# Altium schematic symbol library AD7888.SchLib: 1 symbol
Pins are listed as number, name and electrical type; pins without a type are passive.

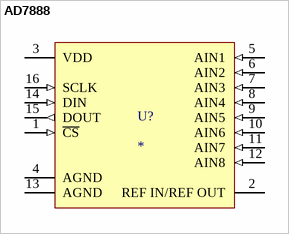
[diagram p0: symbol AD7888]

## AD7888
designator U?
ANALOG DEVICES - AD7888ARUZ - IC, 12BIT ADC, 8CH, SERIAL, 16TSSOP; farnell: 1651244
footprint AD7888 (ANALOG DEVICES - AD7888ARUZ - IC, 12BIT ADC, 8CH, SERIAL, 16TSSOP)
pins: 1 ~{CS} (in), 2 REF IN/REF OUT, 3 VDD (power), 4 AGND (power), 5 AIN1 (in), 6 AIN2 (in), 7 AIN3 (in), 8 AIN4 (in), 9 AIN5 (in), 10 AIN6 (in), 11 AIN7 (in), 12 AIN8 (in), 13 AGND (power), 14 DIN (in), 15 DOUT (out), 16 SCLK (in)